# Altium schematic symbol library ICs-Interface.SchLib: 5 symbols
Pins are listed as number, name and electrical type; pins without a type are passive.

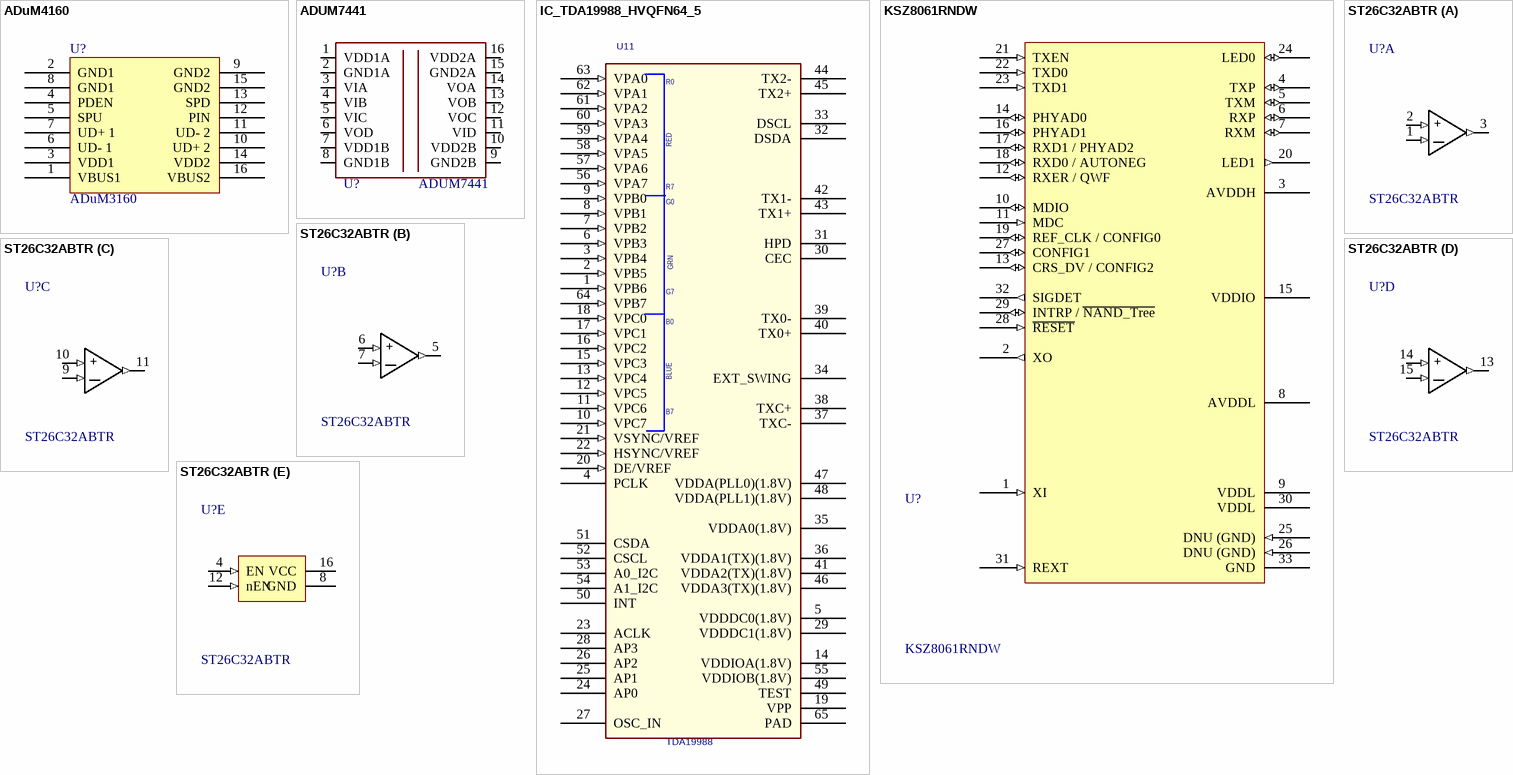
[diagram p0: symbols ADuM4160 to ST26C32ABTR]

## ADuM4160
designator U?, comment ADuM3160
USB Opto Isolator; MANUFACTURER #: ADUM3160BRWZ-RL; MANUFACTURER: Analog Devices; PART: IC DGTL ISO 2.5KV 2CH USB 16SOIC; PART DESCRIPTION: USB Digital Isolator 2500Vrms 2 Channel 12Mbps 25kV/µs CMTI 16-SOIC (0.295", 7.50mm Width); TOLERANCE: -NA-; VALUE: USB ISO; EE_SPEC: 2500V ISO; Assembly Method: SMT; DISTRIBUTOR #: ADUM3160BRWZ-RLTR-ND; DISTRIBUTOR: Digikey
footprint ADuM4160 (SOIC, 16-Leads, Body 10.30x7.50mm, Pitch 1.27mm, IPC Medium Density)
pins: 1 VBUS1, 2 GND1, 3 VDD1, 4 PDEN, 5 SPU, 6 UD- 1, 7 UD+ 1, 8 GND1, 9 GND2, 10 UD+ 2, 11 UD- 2, 12 PIN, 13 SPD, 14 VDD2, 15 GND2, 16 VBUS2

## ADUM7441
designator U?
4ch iCoupler; Manufacturer: Analog Devices; MANUFACTURER #: ADUM7441ARQZ-RL7; PART: ADUM7441ARQZ; Part Description: General Purpose Digital Isolator 1000Vrms 4 Channel 1Mbps 15kV/µs CMTI 16-SSOP (0.154", 3.90mm Width); Assembly Method: SMT; EE_SPEC: 5V 1000Viso; Tolerance: NA; VALUE: ADUM7441ARQZ; DISTRIBUTOR #: ADUM7441ARQZ-RL7TR-ND; DISTRIBUTOR: Digi-Key
footprint QSOP16
pins: 1 VDD1A, 2 GND1A, 3 VIA, 4 VIB, 5 VIC, 6 VOD, 7 VDD1B, 8 GND1B, 9 GND2B, 10 VDD2B, 11 VID, 12 VOC, 13 VOB, 14 VOA, 15 GND2A, 16 VDD2A

## IC_TDA19988_HVQFN64_5
designator U11, comment TDA19988
Assembly Method: SMT
footprint QFN64S9X9P5
pins: 1 VPB6 (in), 2 VPB5 (in), 3 VPB4 (in), 4 PCLK, 5 VDDDC0(1.8V) (power), 6 VPB3 (in), 7 VPB2 (in), 8 VPB1 (in), 9 VPB0 (in), 10 VPC7 (in), 11 VPC6 (in), 12 VPC5 (in), 13 VPC4 (in), 14 VDDIOA(1.8V) (power), 15 VPC3 (in), 16 VPC2 (in), 17 VPC1 (in), 18 VPC0 (in), 19 VPP (power), 20 DE/VREF (in), 21 VSYNC/VREF (in), 22 HSYNC/VREF (in), 23 ACLK, 24 AP0, 25 AP1, 26 AP2, 27 OSC_IN, 28 AP3, 29 VDDDC1(1.8V) (power), 30 CEC, 31 HPD, 32 DSDA, 33 DSCL, 34 EXT_SWING, 35 VDDA0(1.8V) (power), 36 VDDA1(TX)(1.8V) (power), 37 TXC-, 38 TXC+, 39 TX0-, 40 TX0+, 41 VDDA2(TX)(1.8V) (power), 42 TX1-, 43 TX1+, 44 TX2-, 45 TX2+, 46 VDDA3(TX)(1.8V) (power), 47 VDDA(PLL0)(1.8V) (power), 48 VDDA(PLL1)(1.8V) (power), 49 TEST (power), 50 INT, 51 CSDA, 52 CSCL, 53 A0_I2C (power), 54 A1_I2C (power), 55 VDDIOB(1.8V), 56 VPA7 (in), 57 VPA6 (in), 58 VPA5 (in), 59 VPA4 (in), 60 VPA3 (in), 61 VPA2 (in), 62 VPA1 (in), 63 VPA0 (in), 64 VPB7 (in), 65 PAD
text: R0; RED; R7; G0; GRN; G7; B0; BLUE; B7

## KSZ8061RNDW
designator U?
IC TXRX ETHERNET 100MBPS 32QFN; MANUFACTURER: Microchip; Assembly Method: SMT; MANUFACTURER #: KSZ8061RNDW; PART: KSZ8061RNDW; PART DESCRIPTION: IC TXRX ETHERNET 100MBPS 32QFN; VALUE: KSZ8061RNDW
footprint QFN32
pins: 1 XI (in), 2 XO (out), 3 AVDDH (power), 4 TXP (io), 5 TXM (io), 6 RXP (io), 7 RXM (io), 8 AVDDL (power), 9 VDDL (power), 10 MDIO (io), 11 MDC (in), 12 RXER / QWF (io), 13 CRS_DV / CONFIG2 (io), 14 PHYAD0 (io), 15 VDDIO (power), 16 PHYAD1 (io), 17 RXD1 / PHYAD2 (io), 18 RXD0 / AUTONEG (io), 19 REF_CLK / CONFIG0 (io), 20 LED1 (out), 21 TXEN (in), 22 TXD0 (in), 23 TXD1 (in), 24 LED0 (io), 25 DNU (GND) (in), 26 DNU (GND) (in), 27 CONFIG1 (io), 28 ~{RESET} (in), 29 INTRP / ~{NAND_Tree} (io), 30 VDDL (power), 31 REXT (in), 32 SIGDET (out), 33 GND (power)

## ST26C32ABTR
designator U?
IC RECEIVER 0/4 16TSSOP; MANUFACTURER: STM; PART DESCRIPTION: 0/4 Receiver  RS422, RS423 16-TSSOP; Assembly Method: SMT; MANUFACTURER #: ST26C32ABTR; PART: ST26C32ABTR; VALUE: ST26C32ABTR
footprint TSSOP16-65P640X120-16N (TSOP, 16-Leads, Body 5.00x4.39mm, Pitch 0.65mm, IPC High Density)
part A pins: 1 IN- (in) "1", 2 IN+ (in) "1", 3 OUT (out) "1"
part B pins: 5 OUT (out) "1", 6 IN+ (in) "1", 7 IN- (in) "1"
part C pins: 9 IN- (in) "1", 10 IN+ (in) "1", 11 OUT (out) "1"
part D pins: 13 OUT (out) "1", 14 IN+ (in) "1", 15 IN- (in) "1"
part E pins: 4 EN (in) "1", 8 GND (power) "1", 12 nEN (in) "1", 16 VCC (power) "1"
part A text: +; _
part B text: +; _
part C text: +; _
part D text: +; _